# Altium footprint library LAN7800_USB_Ethernet_RevA.PcbLib: 10 footprints
Each footprint in its own frame and in the unit in brackets; x right, y up, seen from the top. Pads: shape width x height; smd on the part's side, far side on the other; paste and mask are expansions set on the pad; w line width, h text height; cw(c..) or ccw(c..) is an arc to the next point about the centre after c.
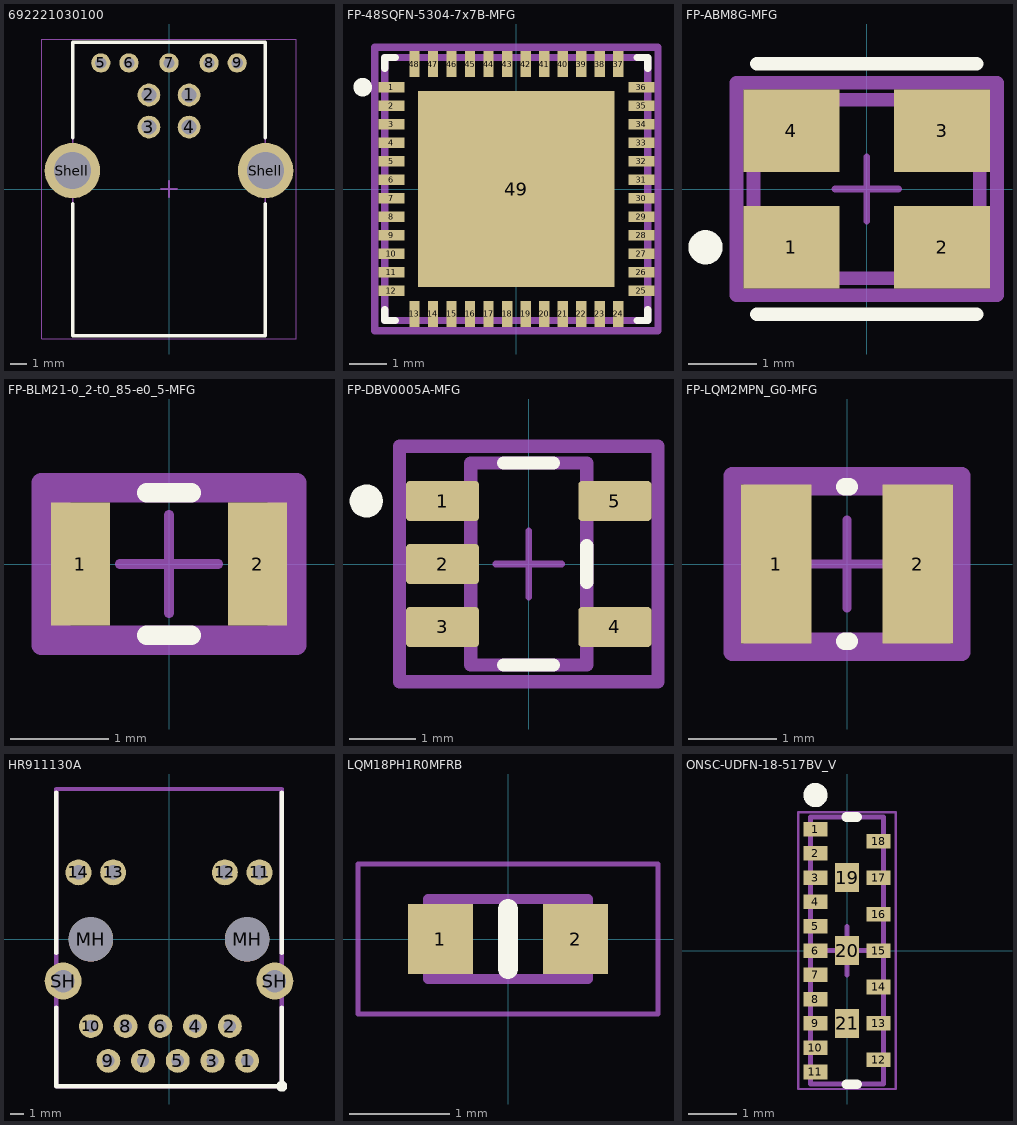
[diagram p0: the footprints below, top view; thin cyan lines are the x and y axes]

## 692221030100 [mm] "USB 3.0 Type B Horizontal"
height 12.9
pads (11):
  round 1.42 hole 0.92: 1(1.25,5.86) 2(-1.25,5.86) 3(-1.25,3.86) 4(1.25,3.86)
  round 1.2 hole 0.7: 5(-4.25,7.86) 6(-2.5,7.86) 7(0,7.86) 8(2.5,7.86) 9(4.25,7.86)
  round 3.45 hole 2.3: Shell(-6.02,1.15) Shell(6.02,1.15)
Top Overlay:
  lines w0.2: -6,-0.9 -6,-9.15 6,-9.15 6,-0.9 ; -6,3.2 -6,9.15 6,9.15 6,3.2
Top Assembly:
  lines w0.1: -6,-9.15 6,-9.15 6,9.15 -6,9.15 -6,-9.15
Top Designator:
  text ".Designator" at -3.647,-0.357 h1
Top 3D Body:
  lines w0.1: -6,-9.15 6,-9.15 6,9.15 -6,9.15 -6,-9.15
Top Courtyard:
  lines w0.05: -7.945,-9.35 7.945,-9.35 7.945,9.35 -7.945,9.35 -7.945,-9.35
Top Component Center:
  lines w0.1: -0.5,0 0.5,0 ; 0,-0.5 0,0.5
3D body "692221030100.stp": height 12.95, standoff -3.18, extent -7.2,-9.15 7.2,9.15

## FP-48SQFN-5304-7x7B-MFG [mm]
pads (49):
  rect 0.7x0.28 smd paste+0 mask+0: 1(-3.375,2.75) 2(-3.375,2.25) 3(-3.375,1.75) 4(-3.375,1.25) 5(-3.375,0.75) 6(-3.375,0.25) 7(-3.375,-0.25) 8(-3.375,-0.75) 9(-3.375,-1.25) 10(-3.375,-1.75) 11(-3.375,-2.25) 12(-3.375,-2.75) 25(3.375,-2.75) 26(3.375,-2.25) 27(3.375,-1.75) 28(3.375,-1.25) 29(3.375,-0.75) 30(3.375,-0.25) 31(3.375,0.25) 32(3.375,0.75) 33(3.375,1.25) 34(3.375,1.75) 35(3.375,2.25) 36(3.375,2.75)
  rect 0.28x0.7 smd paste+0 mask+0: 13(-2.75,-3.375) 14(-2.25,-3.375) 15(-1.75,-3.375) 16(-1.25,-3.375) 17(-0.75,-3.375) 18(-0.25,-3.375) 19(0.25,-3.375) 20(0.75,-3.375) 21(1.25,-3.375) 22(1.75,-3.375) 23(2.25,-3.375) 24(2.75,-3.375) 37(2.75,3.375) 38(2.25,3.375) 39(1.75,3.375) 40(1.25,3.375) 41(0.75,3.375) 42(0.25,3.375) 43(-0.25,3.375) 44(-0.75,3.375) 45(-1.25,3.375) 46(-1.75,3.375) 47(-2.25,3.375) 48(-2.75,3.375)
  rect 5.3x5.3 smd paste+0 mask+0: 49(0,0)
Top Overlay:
  circle w0.25: c-4.15,2.75 r0.125
  lines w0.2: -3.55,-3.265 -3.55,-3.55 -3.265,-3.55 ; -3.55,3.265 -3.55,3.55 -3.265,3.55 ; 3.265,-3.55 3.55,-3.55 3.55,-3.265 ; 3.265,3.55 3.55,3.55 3.55,3.265
Top Assembly:
  lines w0.2: -3.825,-3.825 -3.825,3.825 3.825,3.825 3.825,-3.825 -3.825,-3.825
  text ".Designator" at 0,0.188 h1
Top 3D Body:
  lines w0.2: -3.55,-3.55 -3.55,3.55 3.55,3.55 3.55,-3.55 -3.55,-3.55
Top Courtyard:
  lines w0.2: -3.825,-3.825 -3.825,3.825 3.825,3.825 3.825,-3.825 -3.825,-3.825
Top Component Center:
  lines w0.1: -0.5,0 0.5,0 ; 0,-0.5 0,0.5
3D body "IC_Microchip_LAN7800-I-Y9X_eec.STEP": height 0.25, standoff 0, extent -3.825,-3.825 3.825,3.825

## FP-ABM8G-MFG [mm]
pads (4):
  rect 1.4x1.2 smd paste+0 mask+0: 1(-1.1,-0.85) 2(1.1,-0.85) 3(1.1,0.85) 4(-1.1,0.85)
Top Overlay:
  circle w0.25: c-2.35,-0.85 r0.125
  lines w0.2: -1.6,-1.825 1.6,-1.825 ; -1.6,1.825 1.6,1.825
Top Assembly:
  lines w0.2: -1.9,-1.55 1.9,-1.55 1.9,1.55 -1.9,1.55 -1.9,-1.55
  text ".Designator" at 0,0.188 h1
Top 3D Body:
  lines w0.2: -1.65,-1.3 1.65,-1.3 1.65,1.3 -1.65,1.3 -1.65,-1.3
Top Courtyard:
  lines w0.2: -1.9,-1.55 1.9,-1.55 1.9,1.55 -1.9,1.55 -1.9,-1.55
Top Component Center:
  lines w0.1: -0.465,0 0.465,0 ; 0,-0.465 0,0.465
3D body "Crys_Abracon_ABM8G-12_288MHZ-18-D2Y-T3_eec.STEP": height 0.25, standoff 0, extent -1.9,-1.55 1.9,1.55

## FP-BLM21-0_2-t0_85-e0_5-MFG [mm]
pads (2):
  rect 0.6x1.25 smd paste+0 mask+0: 1(-0.9,0) 2(0.9,0)
Top Overlay:
  lines w0.2: -0.225,-0.725 0.225,-0.725 ; -0.225,0.725 0.225,0.725
Top Assembly:
  lines w0.2: -1.3,-0.825 1.3,-0.825 1.3,0.825 -1.3,0.825 -1.3,-0.825
  text ".Designator" at 0,0.188 h1
Top 3D Body:
  lines w0.2: -1.1,-0.725 1.1,-0.725 1.1,0.725 -1.1,0.725 -1.1,-0.725
Top Courtyard:
  lines w0.2: -1.3,-0.825 1.3,-0.825 1.3,0.825 -1.3,0.825 -1.3,-0.825
Top Component Center:
  lines w0.1: -0.5,0 0.5,0 ; 0,-0.5 0,0.5
3D body "FBead_Murata_BLM21AG102SN1D_eec.STEP": height 0.25, standoff 0, extent -1.3,-0.825 1.3,0.825

## FP-DBV0005A-MFG [mm]
pads (5):
  rrect17% 1.1x0.6 smd paste+0 mask+0: 1(-1.3,0.95) 2(-1.3,0) 3(-1.3,-0.95) 4(1.3,-0.95) 5(1.3,0.95)
Top Overlay:
  circle w0.25: c-2.45,0.95 r0.125
  lines w0.2: -0.375,-1.525 0.375,-1.525 ; -0.375,1.525 0.375,1.525 ; 0.875,-0.275 0.875,0.275
Top Assembly:
  lines w0.2: -1.95,-1.775 1.95,-1.775 1.95,1.775 -1.95,1.775 -1.95,-1.775
  text ".Designator" at 0,-0.001 h1
Top 3D Body:
  lines w0.2: -0.875,-1.525 0.875,-1.525 0.875,1.525 -0.875,1.525 -0.875,-1.525
Top Courtyard:
  lines w0.2: -1.95,-1.775 1.95,-1.775 1.95,1.775 -1.95,1.775 -1.95,-1.775
Top Component Center:
  lines w0.1: -0.5,0 0.5,0 ; 0,-0.5 0,0.5
3D body "IC_Texas_Instruments_SN65LVDT2DBVT_eec.STEP": height 0.25, standoff 0, extent -1.95,-1.775 1.95,1.775

## FP-LQM2MPN_G0-MFG [mm]
pads (2):
  rect 0.8x1.8 smd paste+0 mask+0: 1(-0.8,0) 2(0.8,0)
Top Overlay:
  lines w0.2: -0.025,-0.875 0.025,-0.875 ; -0.025,0.875 0.025,0.875
Top Assembly:
  lines w0.2: -1.3,-1 1.3,-1 1.3,1 -1.3,1 -1.3,-1
  text ".Designator" at 0,0.188 h1
Top 3D Body:
  lines w0.2: -1.075,-0.875 1.075,-0.875 1.075,0.875 -1.075,0.875 -1.075,-0.875
Top Courtyard:
  lines w0.2: -1.3,-1 1.3,-1 1.3,1 -1.3,1 -1.3,-1
Top Component Center:
  lines w0.1: -0.5,0 0.5,0 ; 0,-0.5 0,0.5
3D body "Ind_Murata_LQM2MPN1R5MG0B_eec.STEP": height 0.25, standoff 0, extent -1.3,-1 1.3,1

## HR911130A [mm]
pads (18):
  round 1.75 hole 0.9: 1(5.72,-8.89) 2(4.45,-6.35) 3(3.18,-8.89) 4(1.91,-6.35) 5(0.64,-8.89) 6(-0.63,-6.35) 7(-1.9,-8.89) 8(-3.17,-6.35) 9(-4.44,-8.89) 10(-5.71,-6.35)
  round 1.9 hole 1.05: 11(6.625,4.9) 12(4.085,4.9) 13(-4.085,4.9) 14(-6.625,4.9)
  round 3.25 hole 3.25 unplated: MH(-5.715,0) MH(5.715,0)
  round 2.7 hole 1.65: SH(-7.745,-3.05) SH(7.745,-3.05)
Top Overlay:
  circle w0.4: c8.25,-10.75 r0.2
  lines w0.3: -8.25,-5 -8.25,-10.75 8.25,-10.75 8.25,-5 ; -8.25,-1 -8.25,10.75 ; 8.25,-1 8.25,10.75
Top 3D Body:
  lines w0.3: -8.25,-10.75 8.25,-10.75 8.25,11 -8.25,11 -8.25,-10.75
  text "'.Designator'" at -5.665,-0.417 h1
  text "1" at 7.333,-9.5 h1
3D body "HR911130A.STEP": height 13.51, standoff -2.99, extent -7.94,-10.49 7.94,10.91

## LQM18PH1R0MFRB [mm]
pads (2):
  rect 0.65x0.7 smd: 1(-0.675,0) 2(0.675,0)
Top Overlay:
  lines w0.2: 0,-0.3 0,0.3
Top 3D Body:
  lines w0.1: -0.8,-0.4 0.8,-0.4 0.8,0.4 -0.8,0.4 -0.8,-0.4
Top Courtyard:
  lines w0.05: -1.5,-0.75 1.5,-0.75 1.5,0.75 -1.5,0.75 -1.5,-0.75
3D body "LQM18PN3R3MFRL.stp": height 0.95, standoff 0, extent -0.8,-0.4 0.8,0.4

## ONSC-UDFN-18-517BV_V [mm] "SON, 18-Leads, Body 5.5x1.5mm"
height 0.55
pads (21):
  rect 0.5x0.3 smd: 1(-0.65,2.5) 2(-0.65,2) 3(-0.65,1.5) 4(-0.65,1) 5(-0.65,0.5) 6(-0.65,0) 7(-0.65,-0.5) 8(-0.65,-1) 9(-0.65,-1.5) 10(-0.65,-2) 11(-0.65,-2.5) 12(0.65,-2.25) 13(0.65,-1.5) 14(0.65,-0.75) 15(0.65,0) 16(0.65,0.75) 17(0.65,1.5) 18(0.65,2.25)
  rect 0.5x0.6 smd: 19(0,1.5) 20(0,0) 21(0,-1.5)
Top Overlay:
  circle w0.25: c-0.65,3.2 r0.125
  lines w0.2: -0.013,-2.75 0.206,-2.75 ; -0.013,2.75 0.206,2.75
Top 3D Body:
  lines w0.1: -0.75,-2.75 0.75,-2.75 0.75,2.75 -0.75,2.75 -0.75,-2.75
Top Courtyard:
  lines w0.05: -1,-2.85 1,-2.85 1,2.85 -1,2.85 -1,-2.85
  lines w0.1: -0.5,0 0.5,0 ; 0,-0.5 0,0.5
3D body: height 0.55, standoff 0, extent -0.75,-2.75 0.75,2.75

## PCBComponent_1 [mm]